# Altium schematic symbol library RES_100K_0603.SchLib: 1 symbol
Pins are listed as number, name and electrical type; pins without a type are passive.

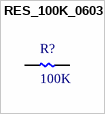
[diagram p0: symbol RES_100K_0603]

## RES_100K_0603
designator R?, comment 100K
Res Thick Film 0603 100K Ohm 5% 0.33W(1/3W) ±200ppm/°C Pad SMD Automotive T/R; Manufacturer: Vishay Dale; Manufacturer Part Number: CRCW0603100KJNEAHP; Resistance: 100kR; Power Rating: 250mW; Voltage Rating: 75V; Supplier 1: Digi-Key; RoHS: Yes; Category: Chip SMD Resistors; Stock 1: 27580; Pricing 1: 1=0.16000, 10=0.13500, 100=0.05290, 1000=0.02215, 2500=0.02030 (USD); Case/Package: 0603; Case Code (Imperial): 0603; Case Code (Metric): 1608; Contact Plating: Tin; Weight: 7.1E-05oz; Min Operating Temperature: -55°C; Max Operating Temperature: 155°C; Packaging: Tape and Reel; Tolerance: 5%; Resistor Type: Thick Film; Temperature Coefficient: 200ppm/°C; Max Power Dissipation: 250mW; Series: CRCW-HP; Number of Terminations: 2; Features: Automotive AEC-Q200; Package Quantity: 5000; Length: 1.6mm; Width: 0.8mm; Height: 0.45mm; Radiation Hardening: No; RoHS Compliant: Yes; Lead Free: Lead Free; ComponentLink1URL: https://datasheet.ciiva.com/5548/crcwhpe3-46056-5548151.pdf?src-supplier=Mouser; ComponentLink1Description: https://datasheet.ciiva.com/5548/crcwhpe3-46056-5548151.pdf?src-supplier=Mouser; Supplier Part Number 1: 541-100KSACT-ND
footprint Res_0603_N (Designed to work with TE and Yageo Parts, using Yageo dimensions, Nominal courtyard, silk at courtyard. / Datasheet: https://www.yageogroup.com/content/Resource%20Library/Product%20Guide-Catalog/yageo_PYu-R_Mount_10_19050818_343.pdf)
footprint Res_0603_M (Designed to work with TE and Yageo Parts, using Yageo dimensions, Maximum Density courtyard, silk at courtyard. / Datasheet: https://www.yageogroup.com/content/Resource%20Library/Product%20Guide-Catalog/yageo_PYu-R_Mount_10_19050818_343.pdf)
pins: 1, 2